# Altium schematic symbol library TST-112-01-L-D.SchLib: 1 symbol
Pins are listed as number, name and electrical type; pins without a type are passive.

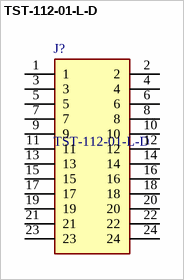
[diagram p0: symbol TST-112-01-L-D]

## TST-112-01-L-D
designator J?
24 Position, Shrouded PCB Headers, 0.100&quot; pitch; Manufacturer_Name: SAMTEC; Mouser Part Number: 200-TST11201LD; Mouser Price/Stock: https://www.mouser.co.uk/ProductDetail/Samtec/TST-112-01-L-D?qs=rU5fayqh%252BE05ODxXvUm9kg%3D%3D; Manufacturer_Part_Number: TST-112-01-L-D; Datasheet Link: http://suddendocs.samtec.com/prints/tst-1xx-xx-x-x-xx-xx-mkt.pdf
footprint TST-112-XX-Y-D
pins: 1, 2, 3, 4, 5, 6, 7, 8, 9, 10, 11, 12, 13, 14, 15, 16, 17, 18, 19, 20, 21, 22, 23, 24